# Altium footprint library CONN_W2B_JST.PcbLib: 168 footprints (part 9 of 11)
Each footprint in its own frame and in the unit in brackets; x right, y up, seen from the top. Pads: shape width x height; smd on the part's side, far side on the other; paste and mask are expansions set on the pad; w line width, h text height; cw(c..) or ccw(c..) is an arc to the next point about the centre after c.
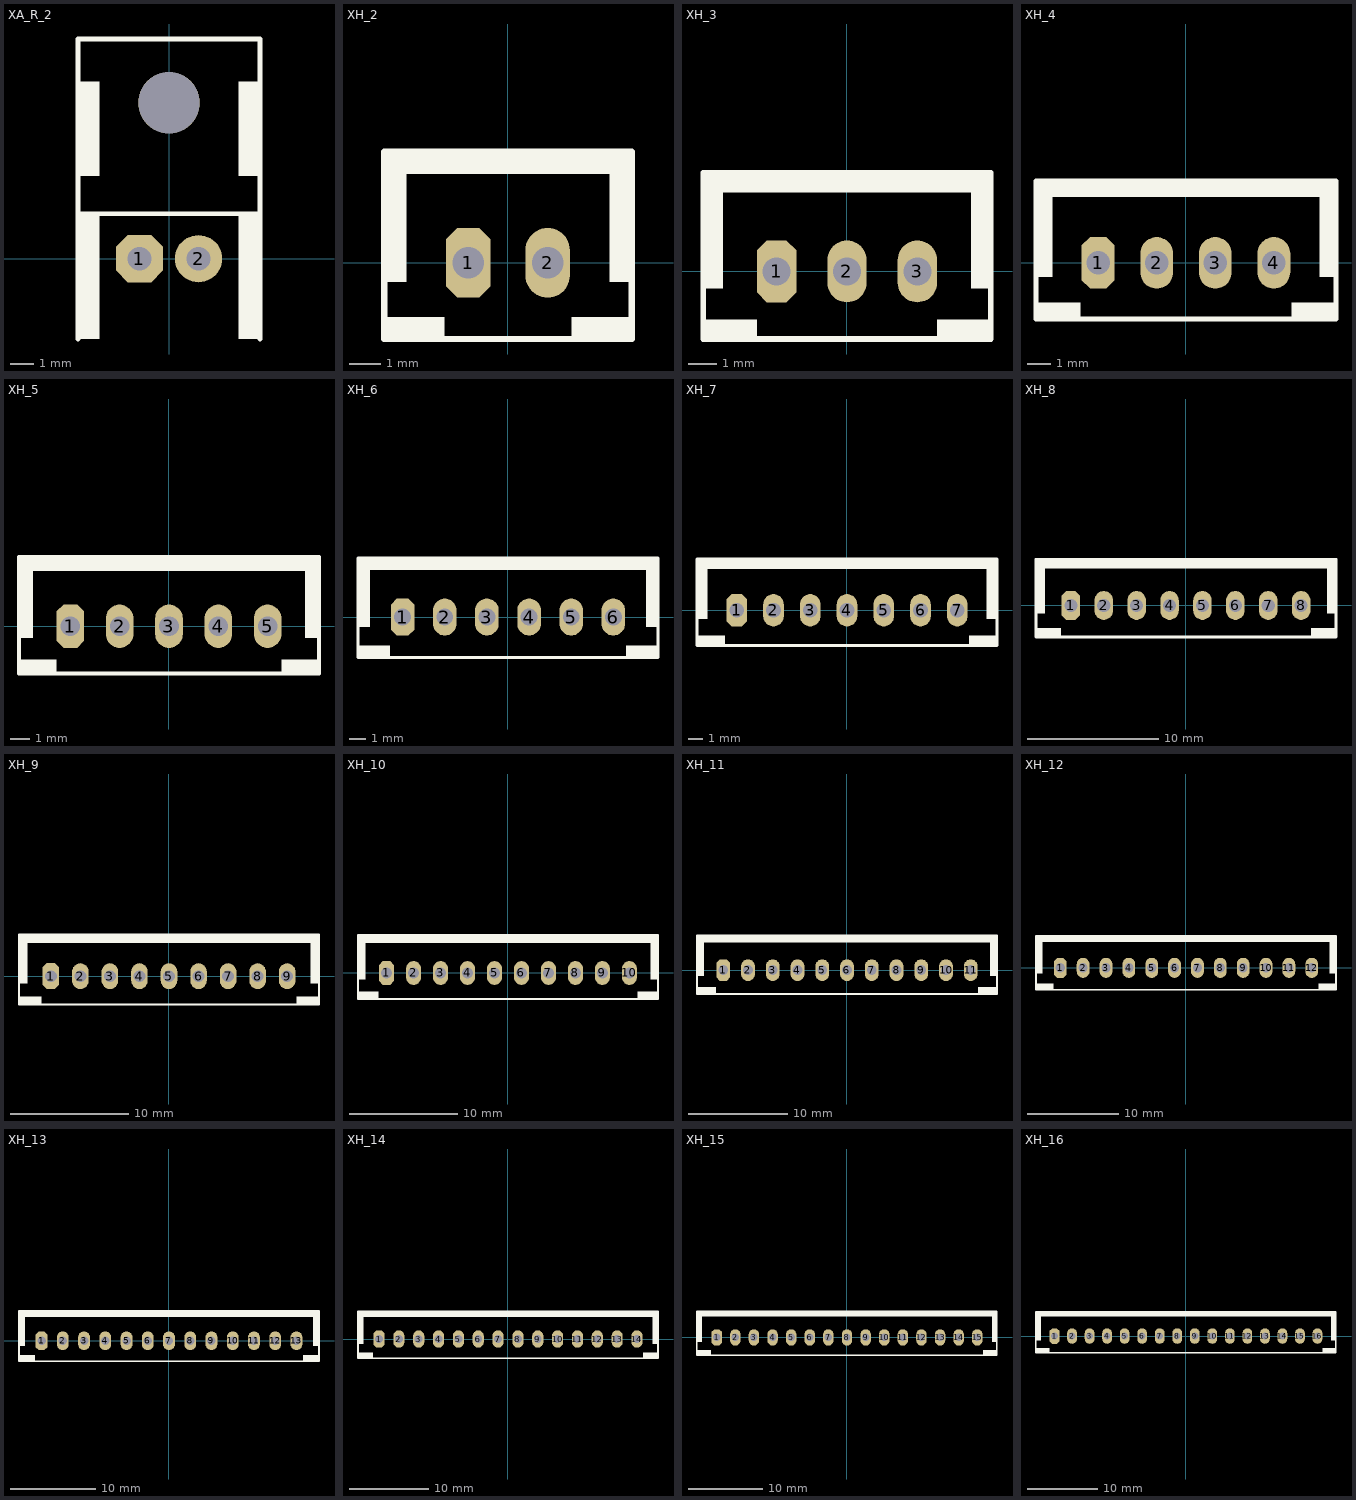
[diagram p8: the footprints below, top view; thin cyan lines are the x and y axes]

## XA_R_2 [mm] "JST S02B-XASS-1 pitch: 2.5mm"
pads (3):
  oct 2x2 hole 1: 1(-1.25,0)
  round 2 hole 1: 2(1.25,0)
  round 2.6 hole 2.6 unplated: ""(0,6.6)
Top Overlay:
  rectangle: -3.85,3.5 -2.95,7.5
  region: 3.85,7.5 2.95,7.5 2.95,3.5 3.85,3.5
  rectangle: -3.85,-3.4 -2.95,1.9
  region: 3.85,1.9 2.95,1.9 2.95,-3.4 3.85,-3.4
  lines w0.2: -3.85,-3.4 -3.85,9.3 3.85,9.3 3.85,-3.4 ; -3.85,1.9 3.85,1.9
3D body "S02B-XASS-1.STEP": height 7.6, standoff -3.5, extent -3.75,-3.4 3.75,9.2

## XH_2 [mm] "PW10-x-M, JST-BxB-XH-A pitch: 2.5mm, 3A/250v"
pads (2):
  oct 1.4x2.2 hole 1: 1(-1.25,0)
  oval 1.4x2.2 hole 1: 2(1.25,0)
Top Overlay:
  rectangle: -3.9,-2.4 -2,-1.7
  rectangle: -3.9,-0.6 -3.2,3.5
  region: -3.9,3.5 -3.9,2.8 3.9,2.8 3.9,3.5
  region: 3.9,3.5 3.2,3.5 3.2,-0.6 3.9,-0.6
  region: 3.9,-1.7 2,-1.7 2,-2.4 3.9,-2.4
  lines w0.2: -3.9,-2.4 3.9,-2.4 3.9,3.5 -3.9,3.5 -3.9,-2.4
3D body "User Library-PW10-02-M white.step": height 7, standoff -3.3, extent -3.75,-2.3 3.75,3.4

## XH_3 [mm] "PW10-x-M, JST-BxB-XH-A pitch: 2.5mm, 3A/250v"
pads (3):
  oct 1.4x2.2 hole 1: 1(-2.5,0)
  oval 1.4x2.2 hole 1: 2(0,0) 3(2.5,0)
Top Overlay:
  region: 5.1,-1.7 3.2,-1.7 3.2,-2.4 5.1,-2.4
  region: 5.1,3.5 4.4,3.5 4.4,-0.6 5.1,-0.6
  region: -5.1,3.5 -5.1,2.8 5.1,2.8 5.1,3.5
  rectangle: -5.1,-0.6 -4.4,3.5
  rectangle: -5.1,-2.4 -3.2,-1.7
  lines w0.2: -5.1,-2.4 -5.1,3.5 5.1,3.5 5.1,-2.4 -5.1,-2.4
3D body "B3B-XH-A_LF__SN_.stp": height 7.09, standoff -3.31, extent -4.949,-2.349 4.951,3.401

## XH_4 [mm] "PW10-x-M, JST-BxB-XH-A pitch: 2.5mm, 3A/250v"
pads (4):
  oct 1.4x2.2 hole 1: 1(-3.75,0)
  oval 1.4x2.2 hole 1: 2(-1.25,0) 3(1.25,0) 4(3.75,0)
Top Overlay:
  region: 6.4,-1.7 4.5,-1.7 4.5,-2.4 6.4,-2.4
  region: 6.4,3.5 5.7,3.5 5.7,-0.6 6.4,-0.6
  region: -6.4,3.5 -6.4,2.8 6.4,2.8 6.4,3.5
  rectangle: -6.4,-0.6 -5.7,3.5
  rectangle: -6.4,-2.4 -4.5,-1.7
  lines w0.2: -6.4,-2.4 -6.4,3.5 6.4,3.5 6.4,-2.4 -6.4,-2.4
3D body "User Library-PW10-04-M white.step": height 7, standoff -3.3, extent -6.25,-2.3 6.25,3.4

## XH_5 [mm] "PW10-x-M, JST-BxB-XH-A pitch: 2.5mm, 3A/250v"
pads (5):
  oct 1.4x2.2 hole 1: 1(-5,0)
  oval 1.4x2.2 hole 1: 2(-2.5,0) 3(0,0) 4(2.5,0) 5(5,0)
Top Overlay:
  rectangle: -7.6,-2.4 -5.7,-1.7
  rectangle: -7.6,-0.6 -6.9,3.5
  region: -7.6,3.5 -7.6,2.8 7.6,2.8 7.6,3.5
  region: 7.6,3.5 6.9,3.5 6.9,-0.6 7.6,-0.6
  region: 7.6,-1.7 5.7,-1.7 5.7,-2.4 7.6,-2.4
  lines w0.2: -7.6,-2.4 7.6,-2.4 7.6,3.5 -7.6,3.5 -7.6,-2.4
3D body "User Library-PW10-05-M white.step": height 7, standoff -3.3, extent -7.5,-2.3 7.5,3.4

## XH_6 [mm] "PW10-x-M, JST-BxB-XH-A pitch: 2.5mm, 3A/250v"
pads (6):
  oct 1.4x2.2 hole 1: 1(-6.25,0)
  oval 1.4x2.2 hole 1: 2(-3.75,0) 3(-1.25,0) 4(1.25,0) 5(3.75,0) 6(6.25,0)
Top Overlay:
  rectangle: -8.9,-2.4 -7,-1.7
  rectangle: -8.9,-0.6 -8.2,3.5
  region: -8.9,3.5 -8.9,2.8 8.9,2.8 8.9,3.5
  region: 8.9,3.5 8.2,3.5 8.2,-0.6 8.9,-0.6
  region: 8.9,-1.7 7,-1.7 7,-2.4 8.9,-2.4
  lines w0.2: -8.9,-2.4 8.9,-2.4 8.9,3.5 -8.9,3.5 -8.9,-2.4
3D body "User Library-PW10-06-M white.step": height 7, standoff -3.3, extent -8.75,-2.3 8.75,3.4

## XH_7 [mm] "PW10-x-M, JST-BxB-XH-A pitch: 2.5mm, 3A/250v"
pads (7):
  oct 1.4x2.2 hole 1: 1(-7.5,0)
  oval 1.4x2.2 hole 1: 2(-5,0) 3(-2.5,0) 4(0,0) 5(2.5,0) 6(5,0) 7(7.5,0)
Top Overlay:
  region: 10.2,-1.7 8.3,-1.7 8.3,-2.4 10.2,-2.4
  region: 10.2,3.5 9.5,3.5 9.5,-0.6 10.2,-0.6
  region: -10.2,3.5 -10.2,2.8 10.2,2.8 10.2,3.5
  rectangle: -10.2,-0.6 -9.5,3.5
  rectangle: -10.2,-2.4 -8.3,-1.7
  lines w0.2: -10.2,-2.4 -10.2,3.5 10.2,3.5 10.2,-2.4 -10.2,-2.4
3D body "B7B-XH-A_LF__SN_.stp": height 7, standoff -3.4, extent -9.949,-2.349 9.951,3.401

## XH_8 [mm] "PW10-x-M, JST-BxB-XH-A pitch: 2.5mm, 3A/250v"
pads (8):
  oct 1.4x2.2 hole 1: 1(-8.75,0)
  oval 1.4x2.2 hole 1: 2(-6.25,0) 3(-3.75,0) 4(-1.25,0) 5(1.25,0) 6(3.75,0) 7(6.25,0) 8(8.75,0)
Top Overlay:
  region: 11.4,-1.7 9.5,-1.7 9.5,-2.4 11.4,-2.4
  region: 11.4,3.5 10.7,3.5 10.7,-0.6 11.4,-0.6
  region: -11.4,3.5 -11.4,2.8 11.4,2.8 11.4,3.5
  rectangle: -11.4,-0.6 -10.7,3.5
  rectangle: -11.4,-2.4 -9.5,-1.7
  lines w0.2: -11.4,-2.4 -11.4,3.5 11.4,3.5 11.4,-2.4 -11.4,-2.4
3D body "User Library-PW10-08-M white.step": height 7, standoff -3.3, extent -11.3,-2.3 11.3,3.4

## XH_9 [mm] "PW10-x-M, JST-BxB-XH-A pitch: 2.5mm, 3A/250v"
pads (9):
  oct 1.4x2.2 hole 1: 1(-10,0)
  oval 1.4x2.2 hole 1: 2(-7.5,0) 3(-5,0) 4(-2.5,0) 5(0,0) 6(2.5,0) 7(5,0) 8(7.5,0) 9(10,0)
Top Overlay:
  region: 12.7,-1.7 10.8,-1.7 10.8,-2.4 12.7,-2.4
  region: 12.7,3.5 12,3.5 12,-0.6 12.7,-0.6
  region: -12.7,3.5 -12.7,2.8 12.7,2.8 12.7,3.5
  rectangle: -12.7,-0.6 -12,3.5
  rectangle: -12.7,-2.4 -10.8,-1.7
  lines w0.2: -12.7,-2.4 -12.7,3.5 12.7,3.5 12.7,-2.4 -12.7,-2.4
3D body "User Library-PW10-09-M white.step": height 7, standoff -3.3, extent -12.55,-2.3 12.55,3.4

## XH_10 [mm] "PW10-x-M, JST-BxB-XH-A pitch: 2.5mm, 3A/250v"
pads (10):
  oct 1.4x2.2 hole 1: 1(-11.25,0)
  oval 1.4x2.2 hole 1: 2(-8.75,0) 3(-6.25,0) 4(-3.75,0) 5(-1.25,0) 6(1.25,0) 7(3.75,0) 8(6.25,0) 9(8.75,0) 10(11.25,0)
Top Overlay:
  rectangle: -13.9,-2.4 -12,-1.7
  rectangle: -13.9,-0.6 -13.2,3.5
  region: -13.9,3.5 -13.9,2.8 13.9,2.8 13.9,3.5
  region: 13.9,3.5 13.2,3.5 13.2,-0.6 13.9,-0.6
  region: 13.9,-1.7 12,-1.7 12,-2.4 13.9,-2.4
  lines w0.2: -13.9,-2.4 13.9,-2.4 13.9,3.5 -13.9,3.5 -13.9,-2.4
3D body "User Library-PW10-10-M white.step": height 7, standoff -3.3, extent -13.8,-2.3 13.8,3.4

## XH_11 [mm] "PW10-x-M, JST-BxB-XH-A pitch: 2.5mm, 3A/250v"
pads (11):
  oct 1.4x2.2 hole 1: 1(-12.5,0)
  oval 1.4x2.2 hole 1: 2(-10,0) 3(-7.5,0) 4(-5,0) 5(-2.5,0) 6(0,0) 7(2.5,0) 8(5,0) 9(7.5,0) 10(10,0) 11(12.5,0)
Top Overlay:
  region: -15.15,3.5 -15.15,2.8 15.15,2.8 15.15,3.5
  rectangle: -15.15,-0.6 -14.45,3.5
  rectangle: -15.15,-2.4 -13.25,-1.7
  region: 15.15,3.5 14.45,3.5 14.45,-0.6 15.15,-0.6
  region: 15.15,-1.7 13.25,-1.7 13.25,-2.4 15.15,-2.4
  lines w0.2: -15.15,-2.4 -15.15,3.5 15.15,3.5 15.15,-2.4 -15.15,-2.4
3D body "User Library-B11B-XH_mod.step": height 7, standoff -3.3, extent -14.95,-2.3 14.95,3.45

## XH_12 [mm] "PW10-x-M, JST-BxB-XH-A pitch: 2.5mm, 3A/250v"
pads (12):
  oct 1.4x2.2 hole 1: 1(-13.75,0)
  oval 1.4x2.2 hole 1: 2(-11.25,0) 3(-8.75,0) 4(-6.25,0) 5(-3.75,0) 6(-1.25,0) 7(1.25,0) 8(3.75,0) 9(6.25,0) 10(8.75,0) 11(11.25,0) 12(13.75,0)
Top Overlay:
  rectangle: -16.4,-2.4 -14.5,-1.7
  rectangle: -16.4,-0.6 -15.7,3.5
  region: -16.4,3.5 -16.4,2.8 16.4,2.8 16.4,3.5
  region: 16.4,3.5 15.7,3.5 15.7,-0.6 16.4,-0.6
  region: 16.4,-1.7 14.5,-1.7 14.5,-2.4 16.4,-2.4
  lines w0.2: -16.4,-2.4 16.4,-2.4 16.4,3.5 -16.4,3.5 -16.4,-2.4
3D body "User Library-B12B-XH_mod.step": height 7, standoff -3.3, extent -16.2,-2.3 16.2,3.45

## XH_13 [mm] "PW10-x-M, JST-BxB-XH-A pitch: 2.5mm, 3A/250v"
pads (13):
  oct 1.4x2.2 hole 1: 1(-15,0)
  oval 1.4x2.2 hole 1: 2(-12.5,0) 3(-10,0) 4(-7.5,0) 5(-5,0) 6(-2.5,0) 7(0,0) 8(2.5,0) 9(5,0) 10(7.5,0) 11(10,0) 12(12.5,0) 13(15,0)
Top Overlay:
  rectangle: -17.65,-2.4 -15.75,-1.7
  rectangle: -17.65,-0.6 -16.95,3.5
  region: -17.65,3.5 -17.65,2.8 17.65,2.8 17.65,3.5
  region: 17.65,3.5 16.95,3.5 16.95,-0.6 17.65,-0.6
  region: 17.65,-1.7 15.75,-1.7 15.75,-2.4 17.65,-2.4
  lines w0.2: -17.65,-2.4 17.65,-2.4 17.65,3.5 -17.65,3.5 -17.65,-2.4
3D body "User Library-B13B-XH_mod.step": height 7, standoff -3.3, extent -17.45,-2.3 17.45,3.45

## XH_14 [mm] "PW10-x-M, JST-BxB-XH-A pitch: 2.5mm, 3A/250v"
pads (14):
  oct 1.4x2.2 hole 1: 1(-16.25,0)
  oval 1.4x2.2 hole 1: 2(-13.75,0) 3(-11.25,0) 4(-8.75,0) 5(-6.25,0) 6(-3.75,0) 7(-1.25,0) 8(1.25,0) 9(3.75,0) 10(6.25,0) 11(8.75,0) 12(11.25,0) 13(13.75,0) 14(16.25,0)
Top Overlay:
  rectangle: -18.9,-2.4 -17,-1.7
  rectangle: -18.9,-0.6 -18.2,3.5
  region: -18.9,3.5 -18.9,2.8 18.9,2.8 18.9,3.5
  region: 18.9,3.5 18.2,3.5 18.2,-0.6 18.9,-0.6
  region: 18.9,-1.7 17,-1.7 17,-2.4 18.9,-2.4
  lines w0.2: -18.9,-2.4 18.9,-2.4 18.9,3.5 -18.9,3.5 -18.9,-2.4
3D body "User Library-B14B-XH_mod.step": height 7, standoff -3.3, extent -18.95,-2.3 18.95,3.45

## XH_15 [mm] "PW10-x-M, JST-BxB-XH-A pitch: 2.5mm, 3A/250v"
pads (15):
  oct 1.4x2.2 hole 1: 1(-17.5,0)
  oval 1.4x2.2 hole 1: 2(-15,0) 3(-12.5,0) 4(-10,0) 5(-7.5,0) 6(-5,0) 7(-2.5,0) 8(0,0) 9(2.5,0) 10(5,0) 11(7.5,0) 12(10,0) 13(12.5,0) 14(15,0) 15(17.5,0)
Top Overlay:
  rectangle: -20.15,-2.4 -18.25,-1.7
  rectangle: -20.15,-0.6 -19.45,3.5
  region: -20.15,3.5 -20.15,2.8 20.15,2.8 20.15,3.5
  region: 20.15,3.5 19.45,3.5 19.45,-0.6 20.15,-0.6
  region: 20.15,-1.7 18.25,-1.7 18.25,-2.4 20.15,-2.4
  lines w0.2: -20.15,-2.4 20.15,-2.4 20.15,3.5 -20.15,3.5 -20.15,-2.4
3D body "User Library-B15B-XH_mod.step": height 7, standoff -3.3, extent -19.95,-2.3 19.95,3.45

## XH_16 [mm] "PW10-x-M, JST-BxB-XH-A pitch: 2.5mm, 3A/250v"
pads (16):
  oct 1.4x2.2 hole 1: 1(-18.75,0)
  oval 1.4x2.2 hole 1: 2(-16.25,0) 3(-13.75,0) 4(-11.25,0) 5(-8.75,0) 6(-6.25,0) 7(-3.75,0) 8(-1.25,0) 9(1.25,0) 10(3.75,0) 11(6.25,0) 12(8.75,0) 13(11.25,0) 14(13.75,0) 15(16.25,0) 16(18.75,0)
Top Overlay:
  rectangle: -21.4,-2.4 -19.5,-1.7
  rectangle: -21.4,-0.6 -20.7,3.5
  region: -21.4,3.5 -21.4,2.8 21.4,2.8 21.4,3.5
  region: 21.4,3.5 20.7,3.5 20.7,-0.6 21.4,-0.6
  region: 21.4,-1.7 19.5,-1.7 19.5,-2.4 21.4,-2.4
  lines w0.2: -21.4,-2.4 21.4,-2.4 21.4,3.5 -21.4,3.5 -21.4,-2.4
3D body "User Library-B16B-XH_mod.step": height 7, standoff -3.3, extent -21.2,-2.3 21.2,3.45